# EAGLE library part MC14069_1 (library parts)
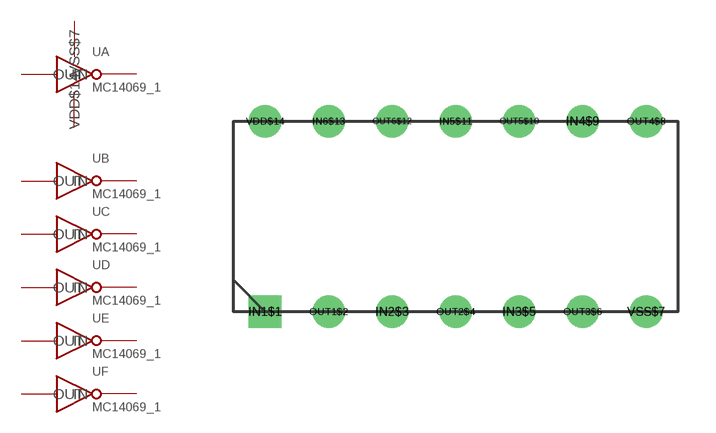
[diagram p2: symbol with the pads of PDIP-14; footprint PDIP-14]

Designator prefix -; gates A=MC14069_SINGLE B=MC14069_SINGLE SUPPLY=MC14069_SUPPLY C=MC14069_SINGLE D=MC14069_SINGLE E=MC14069_SINGLE F=MC14069_SINGLE

## MC14069_1  [PDIP-14]
IN1$1  A:IN
IN2$3  B:IN
IN3$5  C:IN
IN4$9  D:IN
IN5$11  E:IN
IN6$13  F:IN
OUT1$2  A:OUT
OUT2$4  B:OUT
OUT3$6  C:OUT
OUT4$8  D:OUT
OUT5$10  E:OUT
OUT6$12  F:OUT
VDD$14  SUPPLY:VDD$14
VSS$7  SUPPLY:VSS$7

## Footprint PDIP-14 (pad centres in mm)
drill 0.8 square: IN1$1 -7.62,-3.81
drill 0.8 round: IN2$3 -2.54,-3.81; IN3$5 2.54,-3.81; IN4$9 5.08,3.81; IN5$11 0,3.81; IN6$13 -5.08,3.81; OUT1$2 -5.08,-3.81; OUT2$4 0,-3.81; OUT3$6 5.08,-3.81; OUT4$8 7.62,3.81; OUT5$10 2.54,3.81; OUT6$12 -2.54,3.81; VDD$14 -7.62,3.81; VSS$7 7.62,-3.81